# Altium integrated library DHT22.IntLib: 1 symbol
Pins are listed as number, name and electrical type; pins without a type are passive.

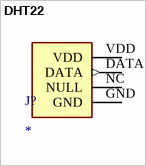
[diagram p0: symbol DHT22]

## DHT22
designator J?
Capacitive-type humidity and temperature module/sensor; MF: Aosong Electronics; MP: DHT22; SnapEDA_Link: https://www.snapeda.com/parts/DHT22/Aosong+Electronics/view-part/?ref=snap; Package: Package; Value: *; Check_prices: https://www.snapeda.com/parts/DHT22/Aosong+Electronics/view-part/?ref=eda
footprint DHT22
pins: DATA (out), GND (power), NC NULL, VDD (power)